# Altium footprint library Power_Footprints.PcbLib: 24 footprints (part 2 of 2)
Each footprint in its own frame and in the unit in brackets; x right, y up, seen from the top. Pads: shape width x height; smd on the part's side, far side on the other; paste and mask are expansions set on the pad; w line width, h text height; cw(c..) or ccw(c..) is an arc to the next point about the centre after c.
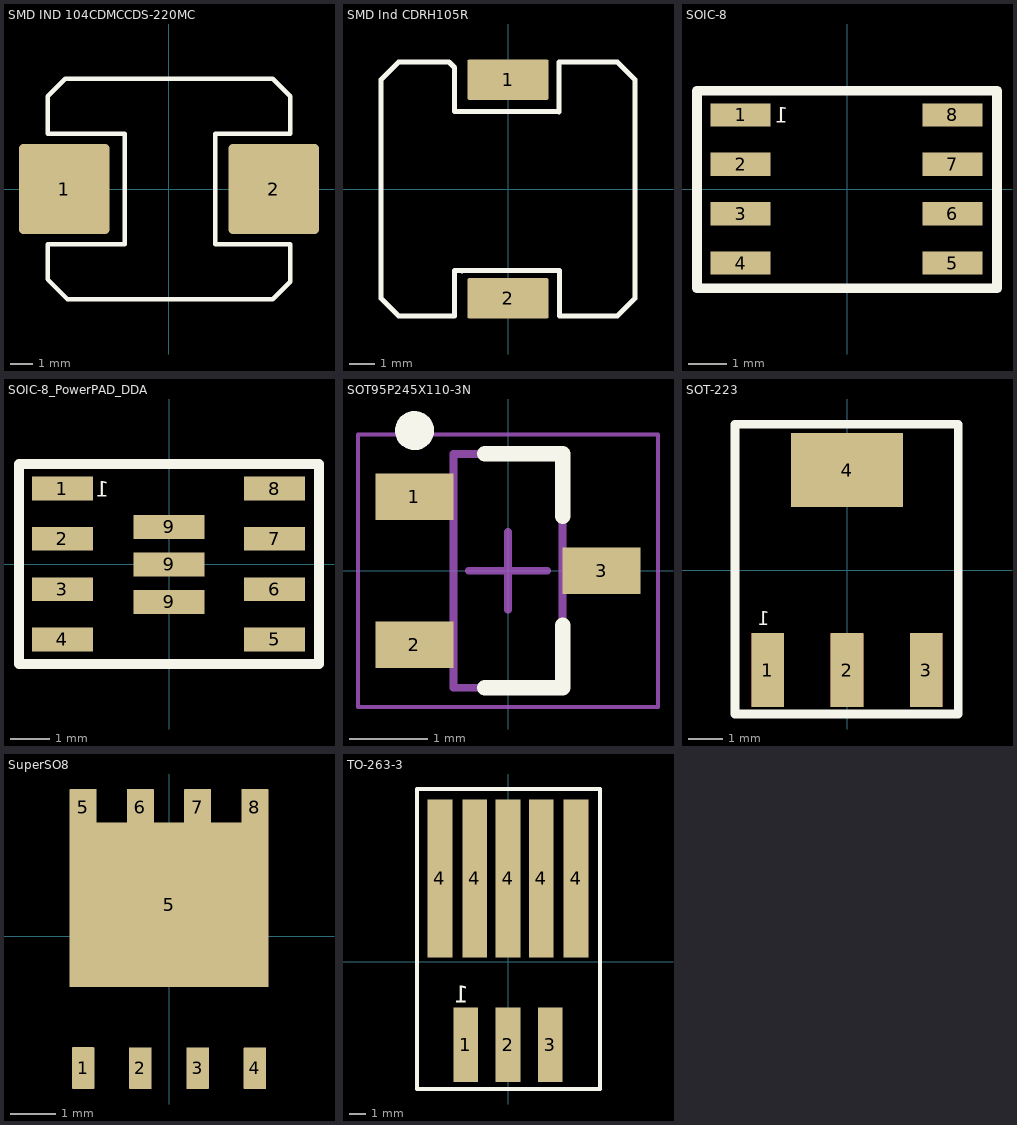
[diagram p1: the footprints below, top view; thin cyan lines are the x and y axes]

## SMD IND 104CDMCCDS-220MC [mm] "22u 5.5A"
pads (2):
  rrect10% 4.1x4.1 smd: 1(-4.75,0) 2(4.75,0)
Top Overlay:
  lines w0.2: -5.5,-4.1 -4.6,-5 4.7,-5 5.5,-4.2 5.5,-2.5 2.1,-2.5 2.1,2.5 5.5,2.5 5.5,4.2 4.7,5 -4.7,5 -5.5,4.2 -5.5,2.5 -2,2.5 -2,-2.5 -5.5,-2.5 -5.5,-4.1

## SMD Ind CDRH105R [mm] "22u 1A"
pads (2):
  rrect10% 3.2x1.6 smd: 1(0,4.3) 2(0,-4.3)
Top Overlay:
  lines w0.2: -1.812,-3.223 -1.788,-3.198 ; -1.788,-3.198 2.032,-3.198 2.032,-4.999 2.033,-5 4.3,-5 5,-4.3 5,4.3 4.3,5 2.008,5 2.008,3.031 1.984,3.055 -2.104,3.055 -2.104,4.783 -2.321,5 -4.3,5 -5,4.3 -5,0 -5,-4.3 -4.3,-5 -2.105,-5 -2.104,-4.999 -2.104,-3.199 -2.105,-3.198 -1.788,-3.198

## SOIC-8 [mm]
pads (8):
  rrect0% 1.55x0.6 smd: 1(-2.75,1.925) 2(-2.75,0.65) 3(-2.75,-0.625) 4(-2.75,-1.9) 5(2.725,-1.9) 6(2.725,-0.625) 7(2.725,0.65) 8(2.725,1.925)
Top Overlay:
  lines w0.254: -3.875,-2.55 3.875,-2.55 3.875,2.55 -3.875,2.55 -3.875,-2.55
  text "1" at -1.52,1.72 h0.4

## SOIC-8_PowerPAD_DDA [mm]
pads (11):
  rrect0% 1.55x0.6 smd: 1(-2.7,1.925) 2(-2.7,0.65) 3(-2.7,-0.625) 4(-2.7,-1.9) 5(2.675,-1.9) 6(2.675,-0.625) 7(2.675,0.65) 8(2.675,1.925)
  rrect0% 1.8x0.6 smd: 9(0,-0.95) 9(0,0) 9(0,0.95)
Top Overlay:
  lines w0.254: -3.8,-2.525 3.8,-2.525 3.8,2.55 -3.8,2.55 -3.8,-2.525
  text "1" at -1.52,1.72 h0.4

## SOT95P245X110-3N [mm] "SOT23, 3-Leads, Body 2,90x2,45mm, Pitch 0,95mm, IPC Medium Density"
height 1.1
pads (3):
  rect 1x0.6 smd: 1(-1.2,0.95) 2(-1.2,-0.95) 3(1.2,0)
Top Overlay:
  circle w0.25: c-1.2,1.8 r0.125
  lines w0.2: -0.3,-1.5 0.7,-1.5 0.7,-0.7 ; -0.3,1.5 0.7,1.5 0.7,0.7
Mechanical 13:
  lines w0.1: -0.7,-1.5 -0.7,1.5 0.7,1.5 0.7,-1.5 -0.7,-1.5
Mechanical 15:
  lines w0.05: -1.925,-1.75 -1.925,1.75 1.925,1.75 1.925,-1.75 -1.925,-1.75
  lines w0.1: -0.5,0 0.5,0 ; 0,-0.5 0,0.5
3D body: height 1.1, standoff 0.05, extent -0.7,-1.5 0.7,1.5

## SOT-223 [mm]
pads (4):
  rrect4% 0.95x2.15 smd: 1(-2.3,-2.9) 2(0,-2.9) 3(2.3,-2.9)
  rrect1% 3.25x2.15 smd: 4(0,2.9)
Top Layer:
  rectangle: -0.475,-3.975 0.475,-1.825
  rectangle: 1.825,-3.975 2.775,-1.825
  rectangle: -2.775,-3.975 -1.825,-1.825
Top Overlay:
  lines w0.254: -3.25,-4.175 3.225,-4.175 3.225,4.225 -3.25,4.225 -3.25,-4.175
  text "1" at -2.245,-1.605 h0.4

## SuperSO8 [mm]
pads (9):
  rrect8% 0.5x0.925 smd paste-2539.97: 1(-1.905,-2.928) 2(-0.635,-2.93) 3(0.635,-2.93) 4(1.905,-2.93)
  rrect6% 0.6x0.8 smd paste-2539.97: 5(-1.905,2.86) 6(-0.635,2.86) 7(0.635,2.86) 8(1.905,2.86)
  rrect1% 4.41x3.655 smd paste-2539.97: 5(0,0.695)

## TO-263-3 [mm] "DPAK 3 leg and pad"
pads (8):
  rrect2% 1.5x4.5 smd: 1(-2.54,-5) 2(0,-5) 3(2.54,-5)
  rrect2% 1.5x9.5 smd: 4(-4.1,5) 4(-2,5) 4(0,5) 4(2,5) 4(4.1,5)
Top Overlay:
  lines w0.254: -5.48,-7.66 5.54,-7.66 5.54,10.38 -5.48,10.38 -5.48,-7.66
  text "1" at -2.36,-2.46 h1